# EAGLE library part PICKIT-HEADER (library project)
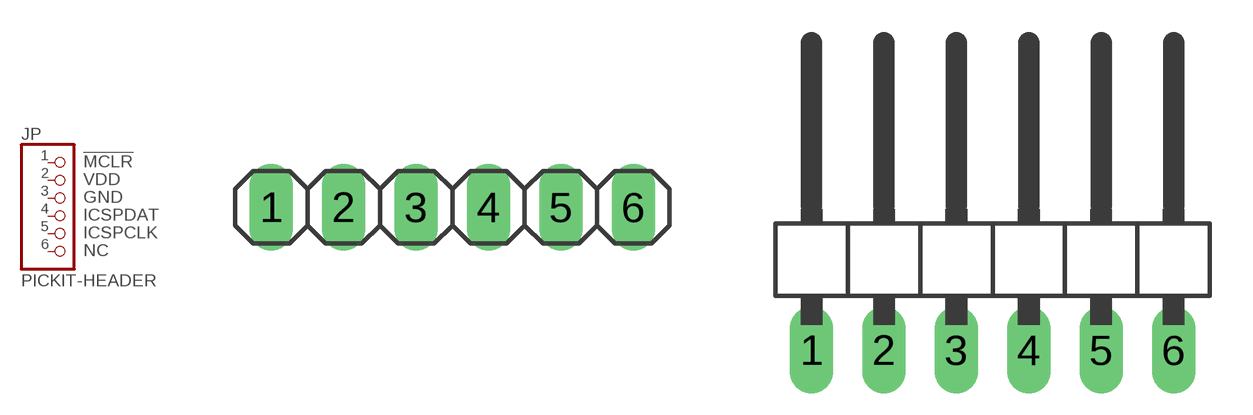
[diagram p3: symbol with the pads of 1X06; footprints 1X06, 1X06/90]

Designator prefix JP

## PICKIT-HEADERHEADER-STRAIGHT  [1X06]
1  1  pas
2  2  pas
3  3  pas
4  4  pas
5  5  pas
6  6  pas

## PICKIT-HEADERHEADER-ANGLE  [1X06/90]
Pads as for 1X06

## PICKIT-HEADERSMD-PADS  [1X06/SMD]
Pads as for 1X06

## Footprint 1X06 (pad centres in mm)
PIN HEADER
drill 1.016 long: 1 -6.35,0; 2 -3.81,0; 3 -1.27,0; 4 1.27,0; 5 3.81,0; 6 6.35,0

## Footprint 1X06/90 (pad centres in mm)
PIN HEADER
drill 1.016 long: 1 -6.35,-3.81; 2 -3.81,-3.81; 3 -1.27,-3.81; 4 1.27,-3.81; 5 3.81,-3.81; 6 6.35,-3.81

## Footprint 1X06/SMD (pad centres in mm)
smd 0.762 x 0.762: 1 -6.35,0
smd 1.524 x 1.524: 2 -3.81,0; 3 -1.27,0; 4 1.27,0; 5 3.81,0; 6 6.35,0